# Altium schematic symbol library Schlib1.SchLib: 3 symbols
Pins are listed as number, name and electrical type; pins without a type are passive.

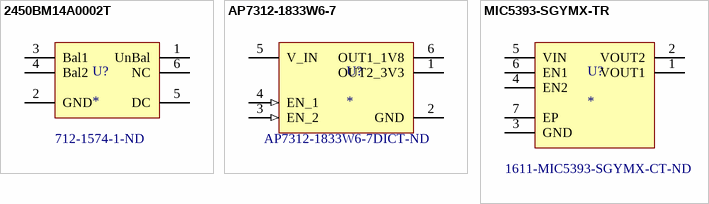
[diagram p0: symbols 2450BM14A0002T to MIC5393-SGYMX-TR]

## 2450BM14A0002T
designator U?  Supplier Part Number 1: 712-1574-1-ND
JOHANSON TECHNOLOGY - 2450BM14A0002T - BALUN, 2.45GHZ, IMPEDANCE MATCHED; Impedance: 50R; Insertion Loss: 2dB; Max Frequency: 2.5GHz; Return Loss: 9.5dB; Supplier 1: Digi-Key; Manufacturer 1: Johanson; Manufacturer Part Number 1: 2450BM14A0002T; Stock 1: 68815; Pricing 1: 1=0.94000, 10=0.83000, 25=0.74960, 100=0.65600, 250=0.57568, 500=0.50872, 1000=0.40163 (USD); RoHS: Yes; Mount: Surface Mount; Case/Package: 0603; Number of Pins: 6; Case Code (Metric): 1608; Case Code (Imperial): 0603; Contact Plating: Tin,Matte; Min Operating Temperature: -40°C; Max Operating Temperature: 85°C; Package Quantity: 4000; Packaging: Tape and Reel; Frequency: 2.45GHz; Termination: SMD/SMT; REACH SVHC: Unknown; ComponentLink1URL: https://datasheet.ciiva.com/7662/1644648-7662569.pdf?src-supplier=Element14; ComponentLink1Description: https://datasheet.ciiva.com/7662/1644648-7662569.pdf?src-supplier=Element14; ComponentLink2URL: https://datasheet.ciiva.com/29655/balun-filter-matched-2450bm14a0002-v2-29655610.pdf?src-supplier=Digi-Key; ComponentLink2Description: https://datasheet.ciiva.com/29655/balun-filter-matched-2450bm14a0002-v2-29655610.pdf?src-supplier=Digi-Key; ComponentLink3URL: https://datasheet.ciiva.com/24023/2450bm14a0002t-247800-24023183.pdf?src-supplier=Mouser; ComponentLink3Description: https://datasheet.ciiva.com/24023/2450bm14a0002t-247800-24023183.pdf?src-supplier=Mouser
pins: 1 UnBal, 2 GND, 3 Bal1, 4 Bal2, 5 DC, 6 NC

## AP7312-1833W6-7
designator U?  Supplier Part Number 1: AP7312-1833W6-7DICT-ND
IC REG LINEAR 1.8V/3.3V SOT26; Manufacturer 1: Diodes; Manufacturer Part Number 1: AP7312-1833W6-7; Number of Outputs: 2; Min Input Voltage: 2V; Max Input Voltage: 6V; Max Output Current: 150mA; Max Power Dissipation: 950mW; Polarity: Positive; Quiescent Current: 80uA; Accuracy: 2%; Output Type: Fixed; Dropout Voltage: 150mV; Output Voltage: 3.3V; Min Current Limit: 200mA; Operating Supply Current: 60uA; Voltage - Output 1: 1.8V; Reference Voltage: 800mV; Power Supply Rejection Ratio (PSRR): 65dB; Supplier 1: Digi-Key; Stock 1: 17585; Pricing 1: 1=0.59000, 10=0.52100, 100=0.37100, 500=0.29994, 1000=0.22890 (USD); RoHS: Yes; Mount: Surface Mount; Case/Package: SOT-26; Number of Pins: 6; Contact Plating: Tin,Matte; Min Operating Temperature: -40°C; Max Operating Temperature: 85°C; Output Current: 150mA; Package Quantity: 3000; Packaging: Tape and Reel; Power Rating: 950mW; Number of Regulators: 2; Current - Output 1: 150mA; Current - Output 2: 150mA; Voltage - Output 2: 3.3V; Power Dissipation: 950mW; Output Voltage Accuracy: 2%; Length: 3.1mm; Height: 1.3mm; Width: 1.7mm; Radiation Hardening: No; REACH SVHC: No SVHC; Lead Free: Lead Free; ComponentLink1URL: https://datasheet.ciiva.com/30477/0900766b8115c2c0-30477178.pdf?src-supplier=RSComponents; ComponentLink1Description: https://datasheet.ciiva.com/30477/0900766b8115c2c0-30477178.pdf?src-supplier=RSComponents; ComponentLink2URL: https://datasheet.ciiva.com/8078/1636610-8078247.pdf?src-supplier=Element14; ComponentLink2Description: https://datasheet.ciiva.com/8078/1636610-8078247.pdf?src-supplier=Element14; ComponentLink3URL: https://datasheet.ciiva.com/8239/ap7312-8239997.pdf?src-supplier=Avnet; ComponentLink3Description: https://datasheet.ciiva.com/8239/ap7312-8239997.pdf?src-supplier=Avnet
pins: 1 OUT2_3V3 (power), 2 GND (power), 3 EN_2 (in), 4 EN_1 (in), 5 V_IN (power), 6 OUT1_1V8 (power)

## MIC5393-SGYMX-TR
designator U?  Supplier Part Number 1: 1611-MIC5393-SGYMX-CT-ND
IC REG LINEAR 1.8V/3.3V 6XTDFN; Manufacturer 1: Microchip; Manufacturer Part Number 1: MIC5393-SGYMX-TR; Output Voltage: 1.8V; Output Current: 150mA; Dropout Voltage: 155mV; Number of Regulators: 2; Min Current Limit: 200mA; Supplier 1: Digi-Key; Stock 1: 4457; Pricing 1: 1=0.13000, 25=0.10520, 100=0.10000 (USD); RoHS: Yes; Mount: Surface Mount; Min Operating Temperature: -40°C; Max Operating Temperature: 125°C; Packaging: Tape and Reel; ComponentLink1URL: http://www.microchip.com/mymicrochip/filehandler.aspx?ddocname=en580190&src-supplier=Digi-Key; ComponentLink1Description: http://www.microchip.com/mymicrochip/filehandler.aspx?ddocname=en580190&src-supplier=Digi-Key
footprint DFN100P300X300X121_HS-7N (DFN, 6-Leads, Body 3.00x3.00mm, Pitch 1.00mm, Thermal Pad 2.40x1.50mm, IPC Medium Density)
pins: 1 VOUT1, 2 VOUT2, 3 GND, 4 EN2, 5 VIN, 6 EN1, 7 EP